# EAGLE library part SERVO (library switch)
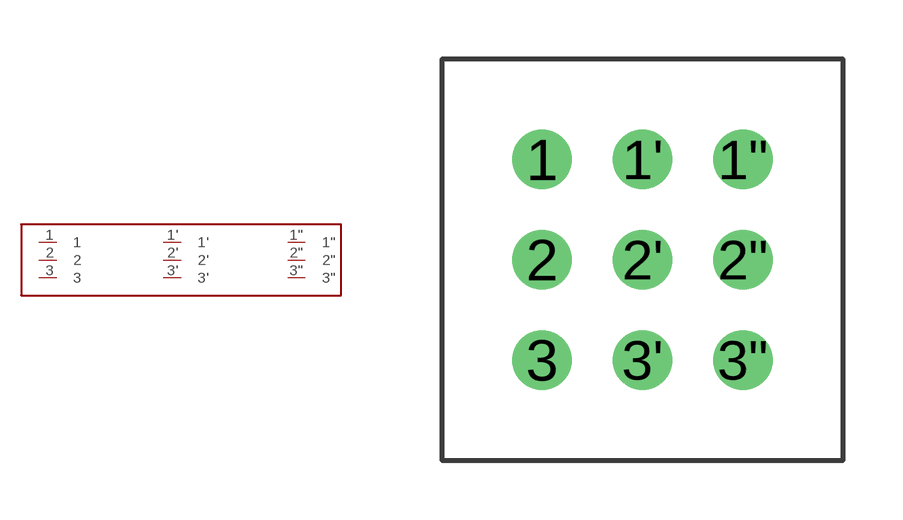
[diagram p3: symbol with the pads of SERVO; footprint SERVO]

Designator prefix -

## SERVO  [SERVO]
1  1
1"  1"
1'  1'
2  2
2"  2"
2'  2'
3  3
3"  3"
3'  3'

## Footprint SERVO (pad centres in mm)
drill 1: 1 -20.32,5.08; 1" -15.24,5.08; 1' -17.78,5.08; 2 -20.32,2.54; 2" -15.24,2.54; 2' -17.78,2.54; 3 -20.32,0; 3" -15.24,0; 3' -17.78,0